# Altium schematic symbol library PLC M3.SCHLIB: 33 symbols
Pins are listed as number, name and electrical type; pins without a type are passive.

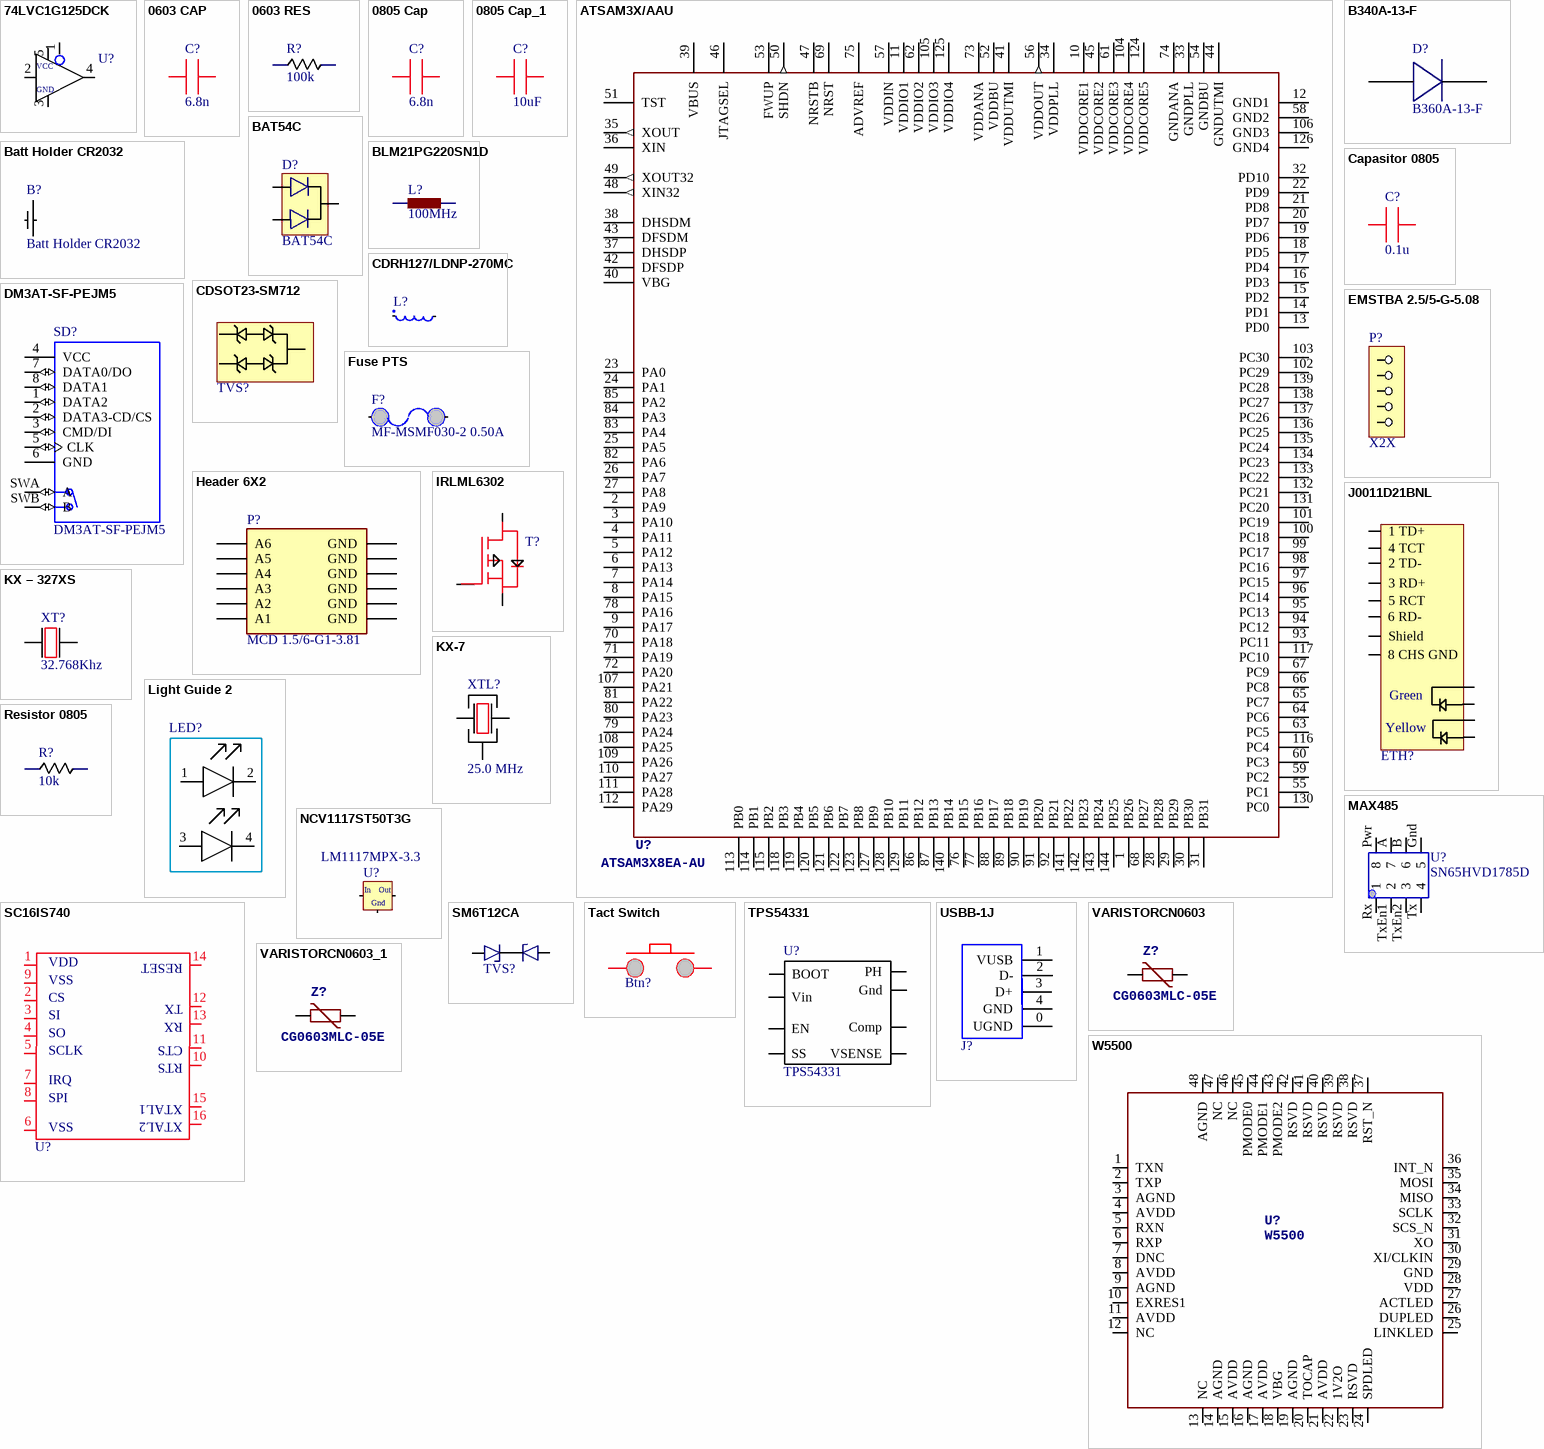
[diagram p0: symbols 74LVC1G125DCK to W5500]

## 74LVC1G125DCK
designator U?  (value not drawn)
footprint 74LVC1G125DCK
pins: 1 7, 2 7, 3 7, 4 7, 5 7
text: VCC; GND

## 0603 CAP
designator C?, comment 6.8n
CC0603KRX7R9BB682
footprint 0603 CAP
pins: 1, 2

## 0603 RES
designator R?, comment 100k
RC0603FR-07100KL
footprint 0603 - RES
pins: 1, 2

## 0805 Cap
designator C?, comment 6.8n
GRM188R71E104KA01D
footprint 0603 CAP
pins: 1, 2

## 0805 Cap_1
designator C?, comment 10uF
GRM32ER71H106KA12L
footprint CAP CER 1210 NP (Capacitor Ceramical SMD 0603 Non-Polar)
pins: 1, 2

## ATSAM3X/AAU
designator U?, comment ATSAM3X8EA-AU
footprint LQFP144
pins: 1 PB26, 2 PA9, 3 PA10, 4 PA11, 5 PA12, 6 PA13, 7 PA14, 8 PA15, 9 PA17, 10 VDDCORE1, 11 VDDIO1 (power), 12 GND1 (power), 13 PD0, 14 PD1, 15 PD2, 16 PD3, 17 PD4, 18 PD5, 19 PD6, 20 PD7, 21 PD8, 22 PD9, 23 PA0, 24 PA1, 25 PA5, 26 PA7, 27 PA8, 28 PB28, 29 PB29, 30 PB30, 31 PB31, 32 PD10, 33 GNDPLL (power), 34 VDDPLL, 35 XOUT (out), 36 XIN, 37 DHSDP, 38 DHSDM, 39 VBUS (power), 40 VBG, 41 VDDUTMI, 42 DFSDP, 43 DFSDM, 44 GNDUTMI (power), 45 VDDCORE2, 46 JTAGSEL, 47 NRSTB, 48 XIN32 (out), 49 XOUT32 (out), 50 SHDN (out), 51 TST, 52 VDDBU (power), 53 FWUP, 54 GNDBU (power), 55 PC1, 56 VDDOUT (out), 57 VDDIN (power), 58 GND2 (power), 59 PC2, 60 PC3, 61 VDDCORE3, 62 VDDIO2 (power), 63 PC5, 64 PC6, 65 PC7, 66 PC8, 67 PC9, 68 PB27, 69 NRST, 70 PA18, 71 PA19, 72 PA20, 73 VDDANA (power), 74 GNDANA (power), 75 ADVREF (power), 76 PB15, 77 PB16, 78 PA16, 79 PA24, 80 PA23, 81 PA22, 82 PA6, 83 PA4, 84 PA3, 85 PA2, 86 PB12, 87 PB13, 88 PB17, 89 PB18, 90 PB19, 91 PB20, 92 PB21, 93 PC11, 94 PC12, 95 PC13, 96 PC14, 97 PC15, 98 PC16, 99 PC17, 100 PC18, 101 PC19, 102 PC29, 103 PC30, 104 VDDCORE4, 105 VDDIO3 (power), 106 GND3 (power), 107 PA21, 108 PA25, 109 PA26, 110 PA27, 111 PA28, 112 PA29, 113 PB0, 114 PB1, 115 PB2, 116 PC4, 117 PC10, 118 PB3, 119 PB4, 120 PB5, 121 PB6, 122 PB7, 123 PB8, 124 VDDCORE5, 125 VDDIO4 (power), 126 GND4 (power), 127 PB9, 128 PB10, 129 PB11, 130 PC0, 131 PC20, 132 PC21, 133 PC22, 134 PC23, 135 PC24, 136 PC25, 137 PC26, 138 PC27, 139 PC28, 140 PB14, 141 PB22, 142 PB23, 143 PB24, 144 PB25

## B340A-13-F
designator D?, comment B360A-13-F
footprint B340A-13-F
pins: 1, 2 1

## BAT54C
designator D?
footprint SOT23
pins: 1, 2, 3 2

## Batt Holder CR2032
designator B?
1734178-1
footprint Batt Holder CR2032
pins: 0 5, 1 6

## BLM21PG220SN1D
designator L?, comment 100MHz
BLM21PG220SN1D
footprint 0805
pins: 1, 2

## Capasitor 0805
designator C?, comment 0.1u
footprint 0603 CAP
pins: 1, 2

## CDRH127/LDNP-270MC
designator L?, comment CDRH127/LDNP-220MC  (value not drawn)
footprint CDRH127/LDNP-270MC,
pins: 1, 2

## CDSOT23-SM712
designator TVS?  (value not drawn)
footprint Sot23-3
pins: 1, 2, 3

## DM3AT-SF-PEJM5
designator SD?
footprint DM3AT-SF-PEJM5
pins: 1 DATA2 (io), 2 DATA3-CD/CS (io), 3 CMD/DI (io), 4 VCC (power), 5 CLK (io), 6 GND (power), 7 DATA0/DO (io), 8 DATA1 (io), SWA A (io), SWB B (io)

## EMSTBA 2.5/5-G-5.08
designator P?, comment X2X
EMSTBA 2.5/5-G-5.08
footprint PhClass5
pins: 1, 2, 3, 4 2, 5 3

## Fuse PTS
designator F?, comment MF-MSMF030-2 0.50A
footprint Fuse PTS
pins: 1, 2

## Header 6X2
designator P?, comment MCD 1.5/6-G1-3.81
Header, 6-Pin, Dual row; LatestRevisionDate: 17-Jul-2002; LatestRevisionNote: Re-released for DXP Platform.; Publisher: Altium Limited
footprint mcd 1,5/6-G1-3.81
pins: 1 A6, 2 GND, 3 A5, 4 GND, 5 A4, 6 GND, 7 A3, 8 GND, 9 A2, 10 GND, 11 A1, 12 GND

## IRLML6302
designator T?  (value not drawn)
footprint SOT23
pins: 1, 2, 3

## J0011D21BNL
designator ETH?, comment ETH?  (value not drawn)
J0011D21BNL
footprint J011D21BNL (Ehernet Port J011D21BNL by YAGEO)
pins: 1 1 TD+, 2 2 TD-, 3 3 RD+, 4 4 TCT, 5 5 RCT, 6 6 RD-, 8 8 CHS GND, 9 LDGr, 10 LDGr, 11 LDYE, 12 LDYE, SHIELD Shield
text: Green; Yellow

## KX – 327XS
designator XT?, comment 32.768Khz
KX – 327XS
footprint XTAL KX-327T
pins: 1 5, 2 5

## KX-7
designator XTL?, comment 25.0 MHz
Geyer KX-7 25.0 MHz
footprint XTAL KX-7T
pins: 1 5, 2, 3 5

## Light Guide 2
designator LED?  (value not drawn)
KP-1608SYC
footprint LED SMD DayLight
pins: 1, 2, 3, 4

## MAX485
designator U?, comment SN65HVD1785D
footprint MAX485 - duplicate (SOIC, 8-Leads, Body 4,90x3,90mm, Pitch 1,27mm, IPC Medium Density)
pins: A 7, B 6, Gnd 5, Pwr 8, Rx 1, Tx 4, TxEn1 2, TxEn2 3

## NCV1117ST50T3G
designator U?, comment LM1117MPX-3.3
footprint SOT223
pins: 1 GND, 2 OUT, 3 IN
text: In; Out; Gnd

## Resistor 0805
designator R?, comment 10k
RT0603FRE0710KL
footprint 0603 - RES
pins: 1, 2

## SC16IS740
designator U?  (value not drawn)
footprint SC16IS740
pins: 1 4, 2 8, 3 8, 4 8, 5 8, 6 8, 7 8, 8, 9, 10 8, 11 8, 12 8, 13 8, 14 8, 15 8, 16 8
text: RESET; VDD; VSS; TX; CS; RX; SI; SO; CTS; SCLK; RTS; IRQ; XTAL1; SPI; XTAL2

## SM6T12CA
designator TVS?, comment TVS Diode  (value not drawn)
SM6T12CA
footprint SM6T
pins: 1, 2

## Tact Switch
designator Btn?  (value not drawn)
KLS7-TS6606-4.3-180
footprint Tact Switch
pins: 0, 1

## TPS54331
designator U?
footprint SOIC-8
pins: 1 BOOT, 2 Vin, 3 EN, 4 SS, 5 VSENSE, 6 Comp, 7 Gnd, 8 PH

## USBB-1J
designator J?  (value not drawn)
footprint USB B
pins: 0 UGND, 1 VUSB, 2 D-, 3 D+, 4 GND

## VARISTORCN0603
designator Z?, comment CG0603MLC-05E
<b>VARISTOR</b>
footprint 0603 - RES
pins: 1, 2

## VARISTORCN0603_1
designator Z?, comment CG0603MLC-05E
<b>VARISTOR</b>
footprint 0603 - RES
pins: 1, 2

## W5500
designator U?
footprint LQFP 48
pins: 1 TXN, 2 TXP, 3 AGND, 4 AVDD, 5 RXN, 6 RXP, 7 DNC, 8 AVDD, 9 AGND, 10 EXRES1, 11 AVDD, 12 NC, 13 NC, 14 AGND, 15 AVDD, 16 AGND, 17 AVDD, 18 VBG, 19 AGND, 20 TOCAP, 21 AVDD, 22 1V2O, 23 RSVD, 24 SPDLED, 25 LINKLED, 26 DUPLED, 27 ACTLED, 28 VDD, 29 GND, 30 XI/CLKIN, 31 XO, 32 SCS_N, 33 SCLK, 34 MISO, 35 MOSI, 36 INT_N, 37 RST_N, 38 RSVD, 39 RSVD, 40 RSVD, 41 RSVD, 42 RSVD, 43 PMODE2, 44 PMODE1, 45 PMODE0, 46 NC, 47 NC, 48 AGND